# Altium footprint library HMC849ALP4CE.PcbLib: 1 footprints
Each footprint in its own frame and in the unit in brackets; x right, y up, seen from the top. Pads: shape width x height; smd on the part's side, far side on the other; paste and mask are expansions set on the pad; w line width, h text height; cw(c..) or ccw(c..) is an arc to the next point about the centre after c.
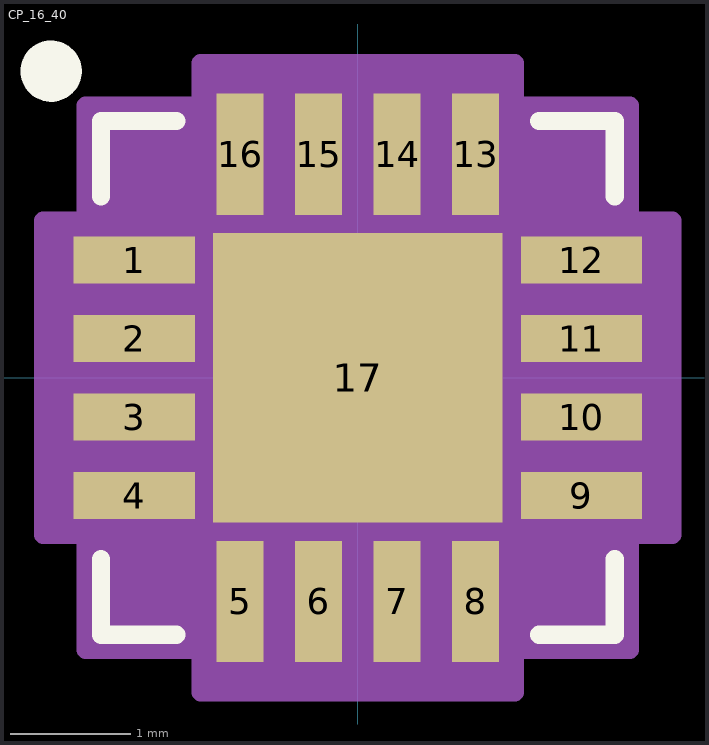
[diagram p0: the footprint, top view; thin cyan lines are the x and y axes]

## CP_16_40 [mm]
pads (17):
  rect 1.005x0.39 smd paste+0 mask+0: 1(-1.852,0.975) 2(-1.852,0.325) 3(-1.852,-0.325) 4(-1.852,-0.975) 9(1.852,-0.975) 10(1.852,-0.325) 11(1.852,0.325) 12(1.852,0.975)
  rect 0.39x1.005 smd paste+0 mask+0: 5(-0.975,-1.852) 6(-0.325,-1.852) 7(0.325,-1.852) 8(0.975,-1.852) 13(0.975,1.852) 14(0.325,1.852) 15(-0.325,1.852) 16(-0.975,1.852)
  rect 2.4x2.4 smd paste-1.187 mask+0: 17(0,0)
Top Overlay:
  circle w0.254: c-2.54,2.54 r0.127
  lines w0.152: -2.127,-1.503 -2.127,-2.127 -1.503,-2.127 ; -2.127,1.503 -2.127,2.127 -1.503,2.127 ; 1.503,-2.127 2.127,-2.127 2.127,-1.503 ; 1.503,2.127 2.127,2.127 2.127,1.503
Top Paste:
  region: 1.2,1.2 -1.2,1.2 -1.2,-1.2 1.2,-1.2
Mechanical 13:
  lines w0.025: -2,0.73 -0.73,2 ; -2.05,-1.17 -2,-1.17 -2,-0.78 -2.05,-0.78 -2.05,-1.17 ; -2.05,-0.52 -2,-0.52 -2,-0.13 -2.05,-0.13 -2.05,-0.52 ; -2.05,0.13 -2,0.13 -2,0.52 -2.05,0.52 -2.05,0.13 ; -2.05,0.78 -2,0.78 -2,1.17 -2.05,1.17 -2.05,0.78 ; -2,-2 -2,2 2,2 2,-2 -2,-2 ; -1.17,-2.05 -0.78,-2.05 -0.78,-2 -1.17,-2 -1.17,-2.05 ; -1.17,2 -1.17,2.05 -0.78,2.05 -0.78,2 -1.17,2 ; -0.52,-2.05 -0.13,-2.05 -0.13,-2 -0.52,-2 -0.52,-2.05 ; -0.52,2 -0.52,2.05 -0.13,2.05 -0.13,2 -0.52,2 ; 0.13,-2.05 0.52,-2.05 0.52,-2 0.13,-2 0.13,-2.05 ; 0.13,2 0.13,2.05 0.52,2.05 0.52,2 0.13,2 ; 0.78,-2.05 1.17,-2.05 1.17,-2 0.78,-2 0.78,-2.05 ; 0.78,2 0.78,2.05 1.17,2.05 1.17,2 0.78,2 ; 2,-1.17 2.05,-1.17 2.05,-0.78 2,-0.78 2,-1.17 ; 2,-0.52 2.05,-0.52 2.05,-0.13 2,-0.13 2,-0.52 ; 2,0.13 2.05,0.13 2.05,0.52 2,0.52 2,0.13 ; 2,0.78 2.05,0.78 2.05,1.17 2,1.17 2,0.78
  text "*" at -1.667,0.665 h1.27
Mechanical 15:
  region: -1.3,-2.254 -2.254,-2.254 -2.254,-1.3 -2.604,-1.3 -2.604,1.3 -2.254,1.3 -2.254,2.254 -1.3,2.254 -1.3,2.604 1.3,2.604 1.3,2.254 2.254,2.254 2.254,1.3 2.604,1.3 2.604,-1.3 2.254,-1.3 2.254,-2.254 1.3,-2.254 1.3,-2.604 -1.3,-2.604
  lines w0.152: -2.604,-1.3 -2.604,1.3 -2.254,1.3 -2.254,2.254 -1.3,2.254 -1.3,2.604 1.3,2.604 1.3,2.254 2.254,2.254 2.254,1.3 2.604,1.3 2.604,-1.3 2.254,-1.3 2.254,-2.254 1.3,-2.254 1.3,-2.604 -1.3,-2.604 -1.3,-2.254 -2.254,-2.254 -2.254,-1.3 -2.604,-1.3
3D body "CP_16_40.stp": height 0.95, standoff 0, extent -2.05,-2.05 2.05,2.05